# EAGLE library part MAX3387 (library at91sam7x-ek)
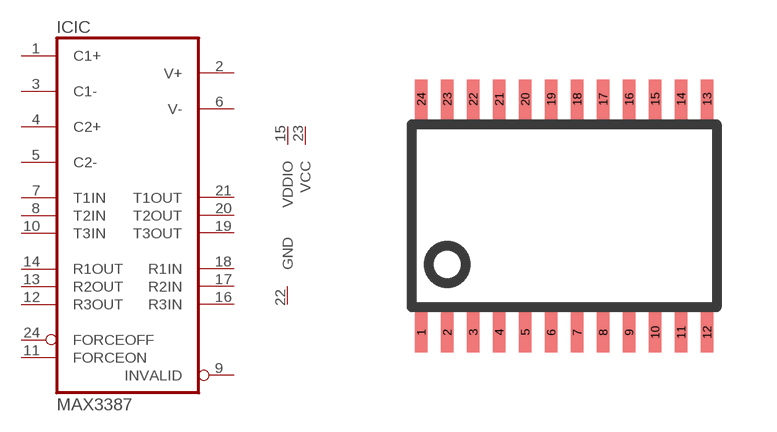
[diagram p3: symbol with the pads of TSSOP24; footprint TSSOP24]

Designator prefix IC; gates IC=MAX3387 G$2=GND G$3=VDDIO G$1=VCC

## MAX3387  [TSSOP24]
1  IC:C1+  pas
2  IC:V+  pas
3  IC:C1-  pas
4  IC:C2+  pas
5  IC:C2-  pas
6  IC:V-  pas
7  IC:T1IN  in
8  IC:T2IN  in
9  IC:INVALID  in
10  IC:T3IN  in
11  IC:FORCEON  in
12  IC:R3OUT  out
13  IC:R2OUT  out
14  IC:R1OUT  out
15  G$3:VDDIO  pwr
16  IC:R3IN  in
17  IC:R2IN  in
18  IC:R1IN  in
19  IC:T3OUT  out
20  IC:T2OUT  out
21  IC:T1OUT  out
22  G$2:GND  pwr
23  G$1:VCC  pwr
24  IC:FORCEOFF  in

## Footprint TSSOP24 (pad centres in mm)
Thin Shrink Small Outline Plastic 24 MAX3223-MAX3243.pdf
smd 0.305 x 0.991: 1 -3.575,-2.918; 2 -2.925,-2.918; 3 -2.275,-2.918; 4 -1.625,-2.918; 5 -0.975,-2.918; 6 -0.325,-2.918; 7 0.325,-2.918; 8 0.975,-2.918; 9 1.625,-2.918; 10 2.275,-2.918; 11 2.925,-2.918; 12 3.575,-2.918; 13 3.575,2.918; 14 2.925,2.918; 15 2.275,2.918; 16 1.625,2.918; 17 0.975,2.918; 18 0.325,2.918; 19 -0.325,2.918; 20 -0.975,2.918; 21 -1.625,2.918; 22 -2.275,2.918; 23 -2.925,2.918; 24 -3.575,2.918